# Altium footprint library IDC8X2.PcbLib: 1 footprints
Each footprint in its own frame and in the unit in brackets; x right, y up, seen from the top. Pads: shape width x height; smd on the part's side, far side on the other; paste and mask are expansions set on the pad; w line width, h text height; cw(c..) or ccw(c..) is an arc to the next point about the centre after c.
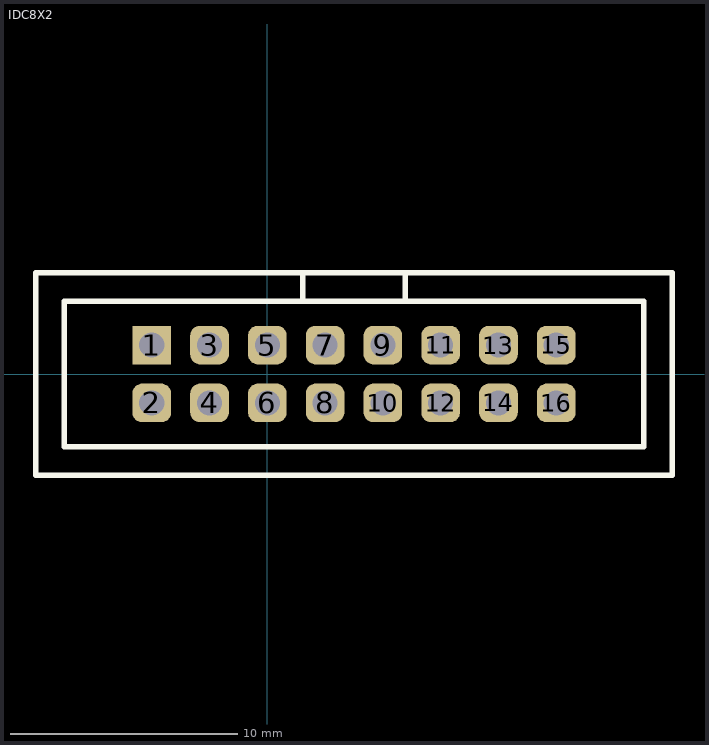
[diagram p0: the footprint, top view; thin cyan lines are the x and y axes]

## IDC8X2 [mm] "IDC8X2"
height 8
pads (16):
  rect 1.7x1.7 hole 1.1: 1(-5.08,1.27)
  rrect50% 1.7x1.7 hole 1.1: 2(-5.08,-1.27) 3(-2.54,1.27) 4(-2.54,-1.27) 5(0,1.27) 6(0,-1.27) 7(2.54,1.27) 8(2.54,-1.27) 9(5.08,1.27) 10(5.08,-1.27) 11(7.62,1.27) 12(7.62,-1.27) 13(10.16,1.27) 14(10.16,-1.27) 15(12.7,1.27) 16(12.7,-1.27)
Top Overlay:
  lines w0.254: 1.56,3.2 1.56,4.45 ; 6.06,3.2 6.06,4.45 ; -10.175,-4.45 17.795,-4.45 17.795,4.45 -10.175,4.45 -10.175,-4.45 ; -8.925,-3.2 16.545,-3.2 16.545,3.2 -8.925,3.2 -8.925,-3.2
3D body "User Library-DS1013-16S (IDC-16MS CONNFLY).STEP": height 9.5, standoff -3.1, extent -10.25,-4.4 17.87,4.5